# Altium footprint library pcblib_ttl_net_ch9120.PcbLib: 4 footprints
Each footprint in its own frame and in the unit in brackets; x right, y up, seen from the top. Pads: shape width x height; smd on the part's side, far side on the other; paste and mask are expansions set on the pad; w line width, h text height; cw(c..) or ccw(c..) is an arc to the next point about the centre after c.
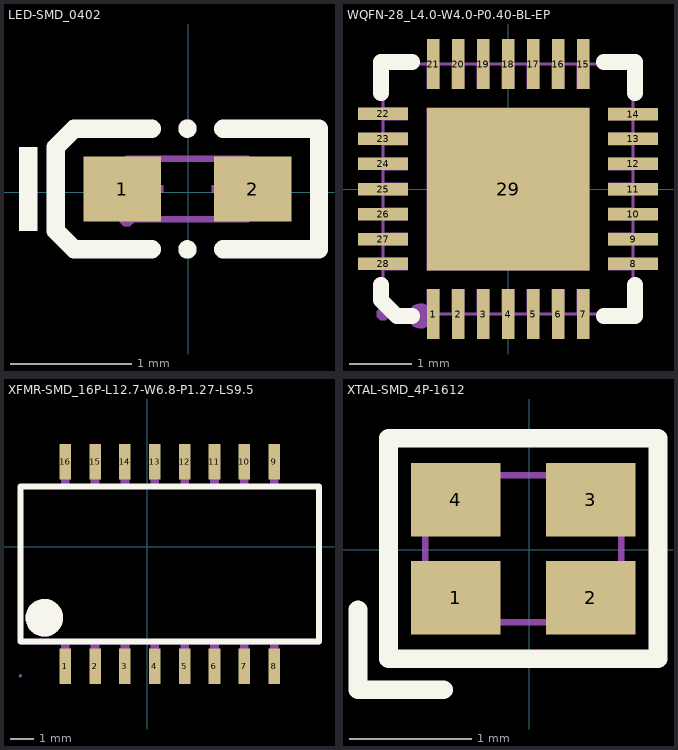
[diagram p0: the footprints below, top view; thin cyan lines are the x and y axes]

## LED-SMD_0402 [mm]
pads (2):
  rect 0.636x0.54 smd paste-100 mask+0.051: 1(-0.545,0.029) 2(0.531,0.029)
Top Overlay:
  circle w0.076: c-0.007,0.527 r0.038
  circle w0.076: c-0.007,-0.47 r0.038
  region: -1.245,-0.318 -1.245,0.375 -1.397,0.375 -1.397,-0.318
  lines w0.152: -0.303,-0.47 -0.94,-0.47 -1.092,-0.318 -1.092,0.375 -0.94,0.527 -0.303,0.527 ; 0.289,-0.47 1.078,-0.47 1.078,0.527 0.289,0.527
Top Paste:
  region: -0.205,-0.201 -0.205,0.259 -0.245,0.299 -0.824,0.299 -0.864,0.259 -0.864,-0.201 -0.824,-0.241 -0.245,-0.241
  region: 0.191,-0.201 0.191,0.259 0.231,0.299 0.809,0.299 0.849,0.259 0.849,-0.201 0.809,-0.241 0.231,-0.241
Mechanical 6:
  region: 0.343,-0.171 0.343,0.229 0.283,0.229 0.283,-0.171
  region: 0.433,-0.001 0.433,0.059 0.193,0.059 0.193,-0.001
  region: -0.447,-0.001 -0.447,0.059 -0.207,0.059 -0.207,-0.001
Mechanical 15:
  region: 0.493,-0.221 0.493,0.279 0.293,0.279 0.293,-0.221
  region: -0.507,-0.221 -0.507,0.279 -0.307,0.279 -0.307,-0.221
  region: -0.447,-0.221 -0.448,-0.197 -0.482,-0.162 -0.531,-0.162 -0.566,-0.197 -0.567,-0.221 -0.566,-0.246 -0.531,-0.28 -0.482,-0.28 -0.448,-0.246 -0.447,-0.221
  lines w0.051: -0.507,-0.221 0.493,-0.221 0.493,0.279 -0.507,0.279 -0.507,-0.221

## WQFN-28_L4.0-W4.0-P0.40-BL-EP [mm]
pads (29):
  rect 0.2x0.8 smd: 1(-1.2,-2) 2(-0.8,-2) 3(-0.4,-2) 4(0,-2) 5(0.4,-2) 6(0.8,-2) 7(1.2,-2) 15(1.2,2) 16(0.8,2) 17(0.4,2) 18(0,2) 19(-0.4,2) 20(-0.8,2) 21(-1.2,2)
  rect 0.8x0.2 smd: 8(2,-1.2) 9(2,-0.8) 10(2,-0.4) 11(2,0) 12(2,0.4) 13(2,0.8) 14(2,1.2) 22(-2,1.2) 23(-2,0.8) 24(-2,0.4) 25(-2,0) 26(-2,-0.4) 27(-2,-0.8) 28(-2,-1.2)
  rect 2.6x2.6 smd: 29(0,0)
Top Overlay:
  lines w0.254: -2.032,-1.531 -2.032,-1.778 -1.778,-2.032 -1.531,-2.032 ; -2.032,1.531 -2.032,2.032 -1.531,2.032 -1.651,2.032 ; 1.531,-2.032 2.032,-2.032 2.032,-1.531 ; 1.531,2.032 2.032,2.032 2.032,1.531
Mechanical 6:
  circle w0.2: c-1.397,-2.032 r0.1
Mechanical 15:
  drawing of 34 lines, arcs and shapes, not listed

## XFMR-SMD_16P-L12.7-W6.8-P1.27-LS9.5 [mm]
pads (16):
  rect 0.49x1.508 smd: 1(-3.496,-5.088) 2(-2.226,-5.088) 3(-0.956,-5.088) 4(0.314,-5.088) 5(1.584,-5.088) 6(2.854,-5.088) 7(4.124,-5.088) 8(5.394,-5.088) 9(5.394,3.6) 10(4.124,3.6) 11(2.854,3.6) 12(1.584,3.6) 13(0.314,3.6) 14(-0.956,3.6) 15(-2.226,3.6) 16(-3.496,3.6)
Top Overlay:
  circle w0.8: c-4.385,-3.03 r0.4
  lines w0.254: -5.401,-4.046 7.299,-4.046 7.299,2.558 -5.401,2.558 -5.401,-4.046
Mechanical 6:
  circle w0.8: c-4.385,-3.03 r0.4
Mechanical 15:
  drawing of 37 lines, arcs and shapes, not listed

## XTAL-SMD_4P-1612 [mm]
pads (4):
  rect 0.73x0.6 smd paste+0 mask+0.05: 1(-0.598,-0.393) 2(0.502,-0.393) 3(0.502,0.407) 4(-0.598,0.407)
Top Overlay:
  lines w0.152: -1.397,-0.493 -1.397,-1.143 -0.699,-1.143 ; -1.148,-0.893 1.052,-0.893 1.052,0.907 -1.148,0.907 -1.148,-0.843 -1.148,-0.893
Mechanical 6:
  circle w0.2: c-0.648,-0.443 r0.1
Mechanical 15:
  region: -0.798,0.557 -0.298,0.557 -0.298,0.157 -0.798,0.157
  region: 0.202,0.557 0.702,0.557 0.702,0.157 0.202,0.157
  region: 0.202,-0.143 0.702,-0.143 0.702,-0.543 0.202,-0.543
  region: -0.798,-0.143 -0.298,-0.143 -0.298,-0.543 -0.798,-0.543
  region: -0.788,-0.593 -0.788,-0.568 -0.823,-0.534 -0.872,-0.534 -0.907,-0.568 -0.908,-0.593 -0.907,-0.617 -0.872,-0.652 -0.823,-0.652 -0.788,-0.617 -0.788,-0.593
  lines w0.051: -0.848,-0.593 0.752,-0.593 0.752,0.607 -0.848,0.607 -0.848,-0.593